# Altium footprint library wulpus.PcbLib: 62 footprints (part 1 of 4)
Each footprint in its own frame and in the unit in brackets; x right, y up, seen from the top. Pads: shape width x height; smd on the part's side, far side on the other; paste and mask are expansions set on the pad; w line width, h text height; cw(c..) or ccw(c..) is an arc to the next point about the centre after c.
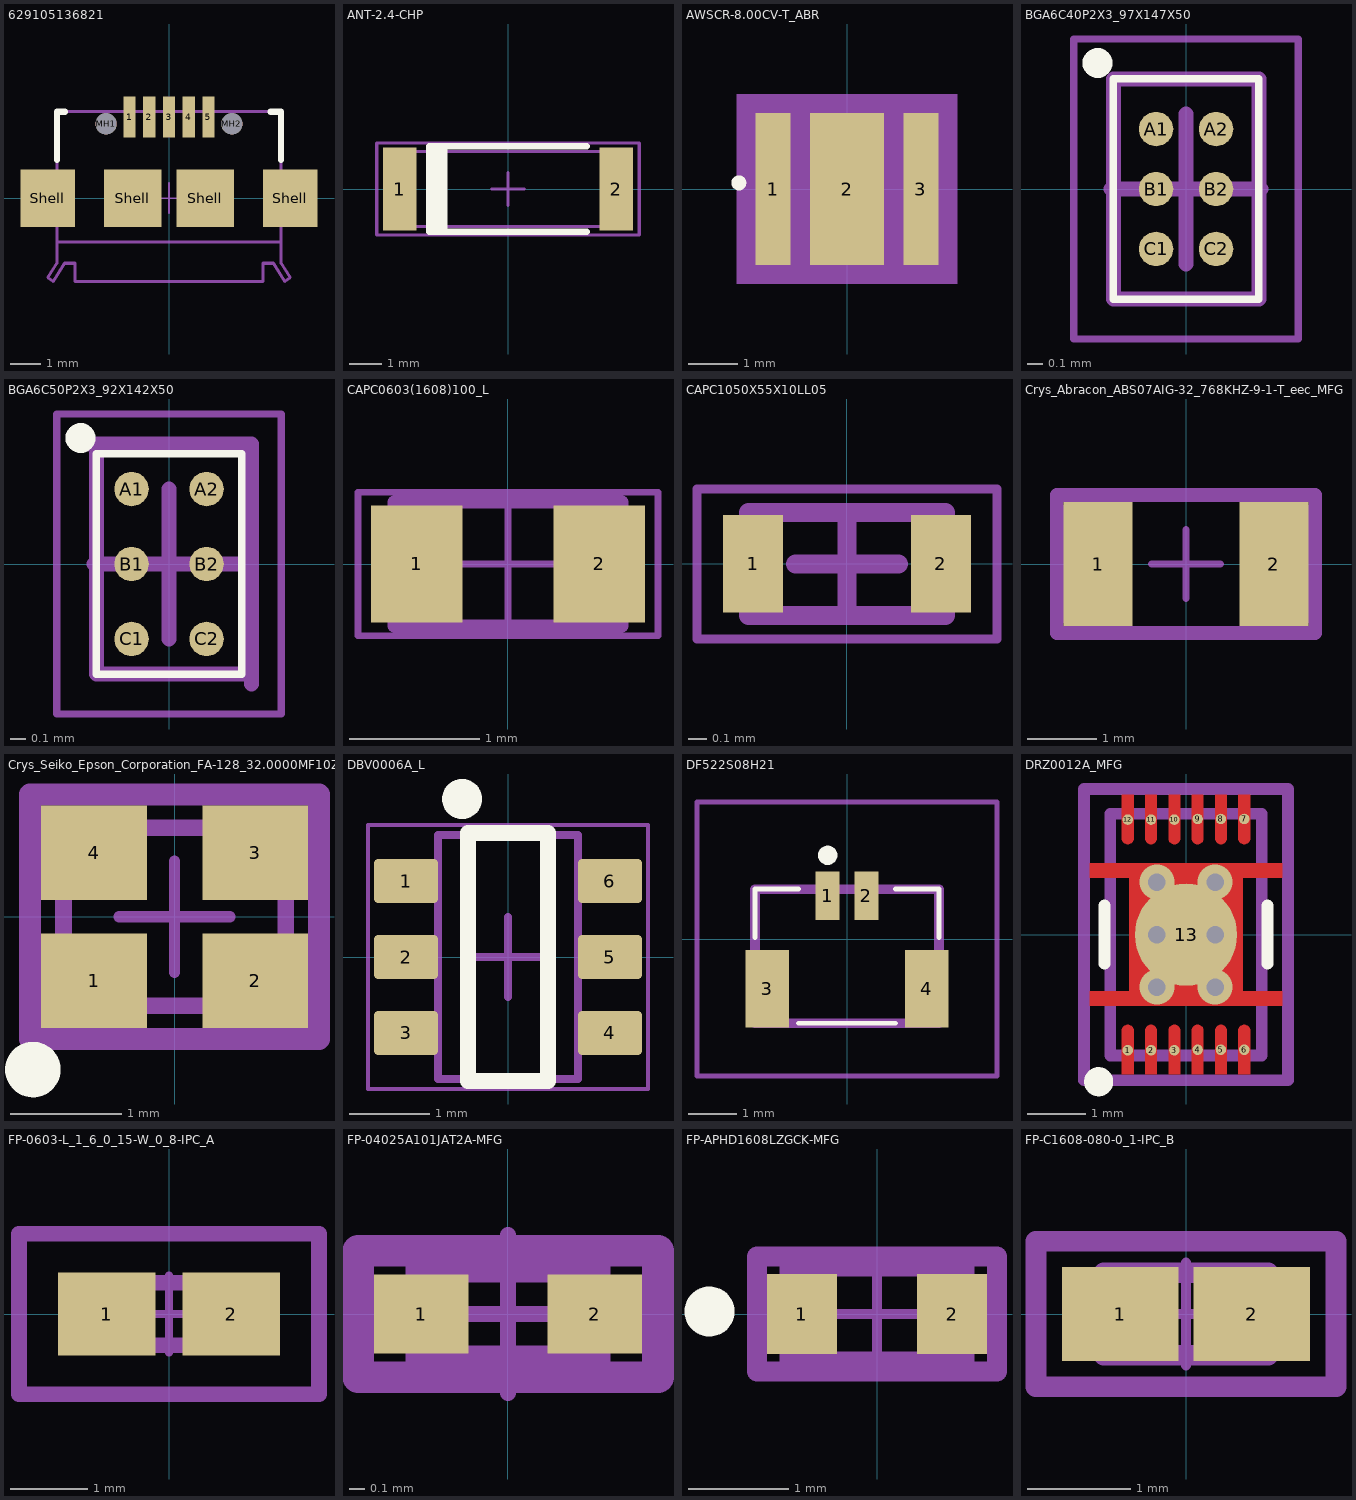
[diagram p0: the footprints below, top view; thin cyan lines are the x and y axes]

## 629105136821 [mm]
pads (11):
  rect 0.4x1.35 smd: 1(-1.3,2.675) 2(-0.65,2.675) 3(0,2.675) 4(0.65,2.675) 5(1.3,2.675)
  round 0.7 hole 0.7 unplated: MH1(-2.075,2.45) MH2(2.075,2.45)
  rect 1.8x1.9 smd: Shell(-4,0) Shell(4,0)
  rect 1.9x1.9 smd: Shell(-1.2,0) Shell(1.2,0)
Top Overlay:
  lines w0.2: -3.7,1.25 -3.7,2.85 -3.425,2.85 ; 3.35,2.85 3.7,2.85 3.7,1.25
Mechanical 2:
  lines w0.1: -3.7,-1.45 3.7,-1.45
  text "PCB Edge" at -1.2,-2.1 h0.41
Top 3D Body:
  lines w0.1: -1.425,2.85 -1.425,3.15 -1.175,3.15 -1.175,2.85 ; -0.775,2.85 -0.775,3.15 -0.525,3.15 -0.525,2.85 ; -0.125,2.85 -0.125,3.15 0.125,3.15 0.125,2.85 ; 0.525,2.85 0.525,3.15 0.775,3.15 0.775,2.85 ; 1.175,2.85 1.175,3.15 1.425,3.15 1.425,2.85 ; -4,-2.625 -3.7,-2.15 -3.7,2.85 3.7,2.85 3.7,-2.15 4,-2.625 3.825,-2.75 3.45,-2.15 3.1,-2.15 3.1,-2.75 -3.1,-2.75 -3.1,-2.15 -3.45,-2.15 -3.825,-2.75 -4,-2.625
Top Courtyard:
  lines w0.05: -0.5,0 0.5,0 ; 0,-0.5 0,0.5
3D body "629105136821.stp": height 2.69, standoff -0.61, extent -4,-2.73 4,3.173

## ANT-2.4-CHP [mil]
pads (2):
  rect 40x100 smd: 1(-130,0) 2(130,0)
Top Overlay:
  rectangle: -94.49,-51.18 -72.83,51.19
  lines w7.87: 94.49,-51.18 -94.49,-51.18 -94.49,51.18 94.49,51.18
Top 3D Body:
  lines w3.94: -130,-45 -130,45 130,45 130,-45 -130,-45
Top Courtyard:
  lines w3.94: -19.69,0 19.68,0 ; 0,-19.68 0,19.69 ; 157.48,-55.12 -157.48,-55.12 -157.48,55.12 157.48,55.12 ; 157.48,-55.12 157.48,-55.12 ; 157.48,-55.12 157.48,55.12 ; 157.48,-55.12 157.48,55.12 ; 157.48,55.12 157.48,55.12
3D body: height 40, standoff 0, extent -130,-45 130,45

## AWSCR-8.00CV-T_ABR [mil]
pads (3):
  rect 28x122 smd paste+0 mask+0: 1(-59.06,0) 3(59.06,0)
  rect 59x122 smd paste+0 mask+0: 2(0,0)
Top Overlay:
  circle w6: c-86.61,4.92 r3
Top Assembly:
  region: 88.06,-76 -88.06,-76 -88.06,76 88.06,76
Top 3D Body:
  circle w0: c-70,0 r3
  lines w1: -73,-61 73,-61 73,61 -73,61 -73,-61
Top Courtyard:
  region: 73,-61 -73,-61 -73,61 73,61
  region: -83.06,-71 -83.06,71 -35.06,71 -39.5,71 39.5,71 35.06,71 83.06,71 83.06,-71 35.06,-71 39.5,-71 -39.5,-71 -35.06,-71
  lines w6: -83.06,-71 -83.06,71 -35.06,71 -39.5,71 39.5,71 35.06,71 83.06,71 83.06,-71 35.06,-71 39.5,-71 -39.5,-71 -35.06,-71 -83.06,-71
3D body: height 10, standoff 0, extent 0,0 10,10
3D body "AWSCR-8.00CV-T--3DModel-STEP-400430.STEP": height 47.94, standoff 0.3, extent -72.83,-61.22 72.84,61.22

## BGA6C40P2X3_97X147X50 [mm]
pads (6):
  round 0.23 smd: A1(-0.2,0.4) A2(0.2,0.4) B1(-0.2,0) B2(0.2,0) C1(-0.2,-0.4) C2(0.2,-0.4)
Top Overlay:
  circle w0.1: c-0.59,0.84 r0.05
  lines w0.05: -0.485,-0.735 -0.485,0.735 0.485,0.735 0.485,-0.735 -0.485,-0.735
Mechanical 12:
  lines w0.1: -0.485,-0.735 -0.485,0.735 0.485,0.735 0.485,-0.735 -0.485,-0.735
Top Courtyard:
  lines w0.05: -0.75,-1 -0.75,1 0.75,1 0.75,-1 -0.75,-1
  lines w0.1: -0.5,0 0.5,0 ; 0,-0.5 0,0.5
3D body "BGA6C40P2X3_97X147X50.step": height 0.5, standoff 0, extent -0.485,-0.735 0.485,0.735

## BGA6C50P2X3_92X142X50 [mm]
pads (6):
  round 0.23 smd: A1(-0.25,0.5) A2(0.25,0.5) B1(-0.25,0) B2(0.25,0) C1(-0.25,-0.5) C2(0.25,-0.5)
Top Overlay:
  circle w0.1: c-0.59,0.84 r0.05
  lines w0.05: -0.485,-0.735 -0.485,0.735 0.485,0.735 0.485,-0.735 -0.485,-0.735
Mechanical 12:
  lines w0.1: -0.55,0.8 0.55,0.8 0.55,-0.8 ; -0.485,0.735 -0.485,-0.735 0.485,-0.735
Top Courtyard:
  lines w0.05: -0.75,-1 -0.75,1 0.75,1 0.75,-1 -0.75,-1
  lines w0.1: -0.5,0 0.5,0 ; 0,-0.5 0,0.5
3D body "BGA6C40P2X3_97X147X50.step": height 0.5, standoff 0, extent -0.485,-0.735 0.485,0.735

## CAPC0603(1608)100_L [mm]
pads (2):
  rect 0.7x0.9 smd: 1(-0.7,0) 2(0.7,0)
Top 3D Body:
  lines w0.1: -0.875,-0.475 0.875,-0.475 0.875,0.475 -0.875,0.475 -0.875,-0.475
Top Courtyard:
  lines w0.05: -0.475,0 0.475,0 ; 0,-0.475 0,0.475 ; -1.15,-0.55 1.15,-0.55 1.15,0.55 -1.15,0.55 -1.15,-0.55
3D body: height 1, standoff 0, extent 0.525,-0.475 0.875,0.475
3D body: height 1, standoff 0, extent -0.875,-0.475 -0.525,0.475
3D body: height 1, standoff 0, extent -0.525,-0.475 0.525,0.475

## CAPC1050X55X10LL05 [mm]
pads (2):
  rect 0.32x0.52 smd: 1(-0.5,0) 2(0.5,0)
Top 3D Body:
  lines w0.1: -0.525,-0.275 -0.525,0.275 0.525,0.275 0.525,-0.275 -0.525,-0.275
Top Courtyard:
  lines w0.05: -0.8,-0.4 0.8,-0.4 0.8,0.4 -0.8,0.4 -0.8,-0.4
  lines w0.1: -0.275,0 0.275,0 ; 0,-0.275 0,0.275
3D body "CAPC1005X06L.step": height 0.55, standoff 0, extent -0.525,-0.275 0.525,0.275

## Crys_Abracon_ABS07AIG-32_768KHZ-9-1-T_eec_MFG [mm]
pads (2):
  rect 1x1.8 smd paste+0 mask+0: 1(-1.275,0) 2(1.275,0)
Mechanical 10:
  lines w0.2: -1.875,-1 1.875,-1 1.875,1 -1.875,1 -1.875,-1
  text ".Designator" at 0,0.188 h1
Mechanical 12:
  lines w0.2: -1.675,-0.825 -1.675,0.825 ; 1.675,-0.825 1.675,0.825
Top Courtyard:
  lines w0.1: -0.5,0 0.5,0 ; 0,-0.5 0,0.5
  lines w0.2: -1.875,-1 1.875,-1 1.875,1 -1.875,1 -1.875,-1
3D body "Crys_Abracon_ABS07AIG-32_768KHZ-9-1-T_eec.STEP": height 0.9, standoff 0, extent -1.6,-0.75 1.6,0.75

## Crys_Seiko_Epson_Corporation_FA-128_32.0000MF10Z-AJ3_eec_0 [mm]
pads (4):
  rect 0.95x0.85 smd paste+0 mask+0: 1(-0.725,-0.575) 2(0.725,-0.575) 3(0.725,0.575) 4(-0.725,0.575)
Top Overlay:
  circle w0.25: c-1.275,-1.375 r0.125
Mechanical 10:
  lines w0.2: -1.3,-1.1 -1.3,1.1 1.3,1.1 1.3,-1.1 -1.3,-1.1
  text ".Designator" at 0,0 h1
Mechanical 12:
  lines w0.15: -1,-0.8 1,-0.8 1,0.8 -1,0.8 -1,-0.8
Top Courtyard:
  lines w0.1: -0.5,0 0.5,0 ; 0,-0.5 0,0.5
  lines w0.2: -1.3,-1.1 -1.3,1.1 1.3,1.1 1.3,-1.1 -1.3,-1.1
3D body "Crys_Seiko_Epson_Corporation_FA-128_32.0000MF10Z-AJ3_eec.STEP": height 0.52, standoff 0, extent -1,-0.794 1,0.806

## DBV0006A_L [mm]
pads (6):
  rrect18% 0.8x0.55 smd: 1(-1.275,0.95) 2(-1.275,0) 3(-1.275,-0.95) 4(1.275,-0.95) 5(1.275,0) 6(1.275,0.95)
Top Overlay:
  circle w0.25: c-0.575,1.975 r0.125
  lines w0.2: -0.5,-1.55 0.5,-1.55 0.5,1.55 -0.5,1.55 -0.5,-1.55
Mechanical 1:
  text ".Designator" at -0.635,-0.127 h0.4
Top 3D Body:
  lines w0.1: -0.875,-1.525 -0.875,1.525 0.875,1.525 0.875,-1.525 -0.875,-1.525
Top Courtyard:
  lines w0.05: -1.75,-1.65 -1.75,1.65 1.75,1.65 1.75,-1.65 -1.75,-1.65
  lines w0.1: -0.5,0 0.5,0 ; 0,-0.5 0,0.5
3D body "DBV0006AakaMF06A.stp": height 1.11, standoff -0.01, extent -1.422,-1.461 1.422,1.46

## DF522S08H21 [mm]
pads (4):
  rect 0.5x1 smd: 1(-0.4,0.89) 2(0.4,0.89)
  rect 0.9x1.6 smd: 3(-1.65,-1.03) 4(1.65,-1.03)
Top Overlay:
  lines w0.1: -1.9,0.03 -1.9,1.03 -1,1.03 ; -1,-1.74 1,-1.74 ; 1,1.03 1.9,1.03 1.9,0.03
  lines w0.2: -0.5,1.73 ccw(c-0.4,1.73) -0.3,1.73 ccw(c-0.4,1.73) -0.5,1.73
Top 3D Body:
  lines w0.2: -1.9,-1.74 -1.9,1.03 1.9,1.03 1.9,-1.74 -1.9,-1.74
Top Courtyard:
  lines w0.1: -3.1,-2.83 -3.1,2.83 3.1,2.83 3.1,-2.83 -3.1,-2.83
3D body "DF52-2S-0.8H_21_.stp": height 1.1, standoff 0, extent -2.01,-1.74 2.01,1.34

## DRZ0012A_MFG [mm]
pads (13):
  round 0.18 smd paste-1000 mask+0: 1(-1,-1.985) 2(-0.6,-1.985) 3(-0.2,-1.985) 4(0.2,-1.975) 5(0.6,-1.975) 6(1,-1.975) 7(1,1.985) 8(0.6,1.985) 9(0.2,1.985) 10(-0.2,1.975) 11(-0.6,1.975) 12(-1,1.975)
  round 1.755 smd paste-1000 mask+0: 13(0,0)
via 0.5,0.9 diameter 0.6 hole 0.3
via 0.5,0 diameter 0.6 hole 0.3
via 0.5,-0.9 diameter 0.6 hole 0.3
via -0.5,0.9 diameter 0.6 hole 0.3
via -0.5,0 diameter 0.6 hole 0.3
via -0.5,-0.9 diameter 0.6 hole 0.3
Top Layer:
  region: 1.1,2.4 1.1,1.65 1.1,1.63 1.085,1.593 1.057,1.565 1.02,1.55 1,1.55 0.98,1.55 0.943,1.565 0.915,1.593 0.9,1.63 0.9,1.65 0.9,2.4
  region: 0.7,2.4 0.7,1.65 0.7,1.63 0.685,1.593 0.657,1.565 0.62,1.55 0.6,1.55 0.58,1.55 0.543,1.565 0.515,1.593 0.5,1.63 0.5,1.65 0.5,2.4
  region: 0.3,2.4 0.3,1.65 0.3,1.63 0.285,1.593 0.257,1.565 0.22,1.55 0.2,1.55 0.18,1.55 0.143,1.565 0.115,1.593 0.1,1.63 0.1,1.65 0.1,2.4
  region: -0.1,2.4 -0.1,1.65 -0.1,1.63 -0.115,1.593 -0.143,1.565 -0.18,1.55 -0.2,1.55 -0.22,1.55 -0.257,1.565 -0.285,1.593 -0.3,1.63 -0.3,1.65 -0.3,2.4
  region: 0.9,-2.4 0.9,-1.65 0.9,-1.63 0.915,-1.593 0.943,-1.565 0.98,-1.55 1,-1.55 1.02,-1.55 1.057,-1.565 1.085,-1.593 1.1,-1.63 1.1,-1.65 1.1,-2.4
  region: 0.5,-2.4 0.5,-1.65 0.5,-1.63 0.515,-1.593 0.543,-1.565 0.58,-1.55 0.6,-1.55 0.62,-1.55 0.657,-1.565 0.685,-1.593 0.7,-1.63 0.7,-1.65 0.7,-2.4
  region: 0.1,-2.4 0.1,-1.65 0.1,-1.63 0.115,-1.593 0.143,-1.565 0.18,-1.55 0.2,-1.55 0.22,-1.55 0.257,-1.565 0.285,-1.593 0.3,-1.63 0.3,-1.65 0.3,-2.4
  region: -0.3,-2.4 -0.3,-1.65 -0.3,-1.63 -0.285,-1.593 -0.257,-1.565 -0.22,-1.55 -0.2,-1.55 -0.18,-1.55 -0.143,-1.565 -0.115,-1.593 -0.1,-1.63 -0.1,-1.65 -0.1,-2.4
  region: -0.5,2.4 -0.5,1.65 -0.5,1.63 -0.515,1.593 -0.543,1.565 -0.58,1.55 -0.6,1.55 -0.62,1.55 -0.657,1.565 -0.685,1.593 -0.7,1.63 -0.7,1.65 -0.7,2.4
  region: -0.9,2.4 -0.9,1.65 -0.9,1.63 -0.915,1.593 -0.943,1.565 -0.98,1.55 -1,1.55 -1.02,1.55 -1.057,1.565 -1.085,1.593 -1.1,1.63 -1.1,1.65 -1.1,2.4
  region: -0.7,-2.4 -0.7,-1.65 -0.7,-1.63 -0.685,-1.593 -0.657,-1.565 -0.62,-1.55 -0.6,-1.55 -0.58,-1.55 -0.543,-1.565 -0.515,-1.593 -0.5,-1.63 -0.5,-1.65 -0.5,-2.4
  region: -1.1,-2.4 -1.1,-1.65 -1.1,-1.63 -1.085,-1.593 -1.057,-1.565 -1.02,-1.55 -1,-1.55 -0.98,-1.55 -0.943,-1.565 -0.915,-1.593 -0.9,-1.63 -0.9,-1.65 -0.9,-2.4
  region: -1.65,1.225 1.65,1.225 1.65,0.975 0.975,0.975 0.975,-0.975 1.65,-0.975 1.65,-1.225 -1.65,-1.225 -1.65,-0.975 -0.975,-0.975 -0.975,0.975 -1.65,0.975
Top Overlay:
  circle w0.25: c-1.5,-2.525 r0.125
  lines w0.2: -1.4,-0.5 -1.4,0.5 ; 1.4,-0.5 1.4,0.5
Top Paste:
  drawing of 20 lines, arcs and shapes, not listed
Mechanical 10:
  lines w0.2: -1.75,-2.5 1.75,-2.5 1.75,2.5 -1.75,2.5 -1.75,-2.5
  text ".Designator" at 0,0.188 h1
Mechanical 12:
  lines w0.2: -1.3,-2.075 1.3,-2.075 1.3,2.075 -1.3,2.075 -1.3,-2.075
Top Courtyard:
  lines w0.1: -0.5,0 0.5,0 ; 0,-0.5 0,0.5
  lines w0.2: -1.75,-2.5 1.75,-2.5 1.75,2.5 -1.75,2.5 -1.75,-2.5
3D body "IC_Texas_Instruments_BQ27441DRZT-G1B_eec.STEP": height 0.25, standoff 0, extent -1.75,-2.5 1.75,2.5

## FP-0603-L_1_6_0_15-W_0_8-IPC_A [mm]
pads (2):
  rect 1.258x1.062 smd paste+0 mask+0: 1(-0.802,0) 2(0.802,0)
Top Assembly:
  lines w0.2: -1.931,-1.031 -1.931,1.031 1.931,1.031 1.931,-1.031 -1.931,-1.031
  text ".Designator" at 0,0.188 h1
Top 3D Body:
  lines w0.2: -0.8,-0.4 0.8,-0.4 0.8,0.4 -0.8,0.4 -0.8,-0.4
Top Courtyard:
  lines w0.2: -1.931,-1.031 -1.931,1.031 1.931,1.031 1.931,-1.031 -1.931,-1.031
Top Component Center:
  lines w0.1: -0.5,0 0.5,0 ; 0,-0.5 0,0.5
3D body "Cap_Taiyo_Yuden_EMK107ABJ475KA-T_eec.STEP": height 0.95, standoff 0, extent -0.8,-0.4 0.8,0.4

## FP-04025A101JAT2A-MFG [mm]
pads (2):
  rect 0.6x0.5 smd paste+0 mask+0: 1(-0.55,0) 2(0.55,0)
Top Assembly:
  lines w0.2: -0.95,-0.4 0.95,-0.4 0.95,0.4 -0.95,0.4 -0.95,-0.4
  text ".Designator" at 0,0.188 h1
Top 3D Body:
  lines w0.2: -0.55,-0.3 -0.55,0.3 0.55,0.3 0.55,-0.3 -0.55,-0.3
Top Courtyard:
  lines w0.2: -0.95,-0.4 0.95,-0.4 0.95,0.4 -0.95,0.4 -0.95,-0.4
Top Component Center:
  lines w0.1: -0.5,0 0.5,0 ; 0,-0.5 0,0.5
3D body "Cap_AVX_04025A101JAT2A_eec.STEP": height 0.25, standoff 0, extent -0.95,-0.4 0.95,0.4

## FP-APHD1608LZGCK-MFG [mm]
pads (2):
  rect 0.7x0.8 smd paste+0 mask+0: 1(-0.75,0) 2(0.75,0)
Top Overlay:
  circle w0.25: c-1.675,0.025 r0.125
Top Assembly:
  lines w0.2: -1.2,-0.575 1.2,-0.575 1.2,0.575 -1.2,0.575 -1.2,-0.575
  text ".Designator" at 0,-0.001 h1
Top 3D Body:
  lines w0.2: -0.875,-0.475 -0.875,0.475 0.875,0.475 0.875,-0.475 -0.875,-0.475
Top Courtyard:
  lines w0.2: -1.2,-0.575 1.2,-0.575 1.2,0.575 -1.2,0.575 -1.2,-0.575
Top Component Center:
  lines w0.1: -0.5,0 0.5,0 ; 0,-0.5 0,0.5
3D body "Diode_Kingbright_APHD1608LZGCK_eec.STEP": height 0.8, standoff 0, extent -0.8,-0.4 0.8,0.4

## FP-C1608-080-0_1-IPC_B [mm]
pads (2):
  rect 1.131x0.912 smd paste+0 mask+0: 1(-0.641,0) 2(0.641,0)
Top Assembly:
  lines w0.2: -1.456,-0.706 -1.456,0.706 1.456,0.706 1.456,-0.706 -1.456,-0.706
  text ".Designator" at 0,0.188 h1
Top 3D Body:
  lines w0.2: -0.8,-0.4 -0.8,0.4 0.8,0.4 0.8,-0.4 -0.8,-0.4
Top Courtyard:
  lines w0.2: -1.456,-0.706 -1.456,0.706 1.456,0.706 1.456,-0.706 -1.456,-0.706
Top Component Center:
  lines w0.1: -0.5,0 0.5,0 ; 0,-0.5 0,0.5
3D body "Cap_TDK_C1608X6S0G106K080AB_eec.STEP": height 0.25, standoff 0, extent -1.456,-0.706 1.456,0.706